# Altium schematic symbol library L-KLS1-229-5FB-B-R.SchLib: 1 symbol
Pins are listed as number, name and electrical type; pins without a type are passive.

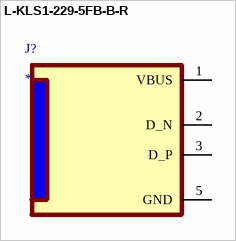
[diagram p0: symbol L-KLS1-229-5FB-B-R]

## L-KLS1-229-5FB-B-R
designator J?
footprint L-KLS1-229-5FB-B-R
pins: 1 VBUS, 2 D_N, 3 D_P, 5 GND